# EAGLE library part TXB0104 (library pandaLight)
4-bit bidirectional voltage-level translator
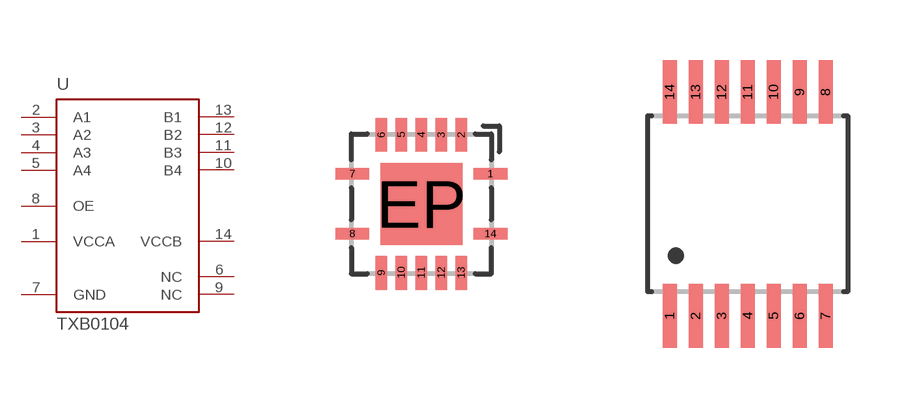
[diagram p18: symbol with the pads of S-PVQFN-N14; footprints S-PVQFN-N14, R-PDSO-G14]

Designator prefix U

## TXB0104RGYR  [S-PVQFN-N14]
1  VCCA  pwr
2  A1
3  A2
4  A3
5  A4
6  NC  nc
7  GND  pwr
8  OE  in
9  NC  nc
10  B4
11  B3
12  B2
13  B1
14  VCCB  pwr

## TXB0104PWR  [R-PDSO-G14]
Pads as for S-PVQFN-N14

## Footprint S-PVQFN-N14 (pad centres in mm)
smd 0.85 x 0.28: 1 1.725,0.75; 7 -1.725,0.75; 8 -1.725,-0.75; 14 1.725,-0.75
smd 0.28 x 0.85: 2 1,1.725; 3 0.5,1.725; 4 0,1.725; 5 -0.5,1.725; 6 -1,1.725; 9 -1,-1.725; 10 -0.5,-1.725; 11 0,-1.725; 12 0.5,-1.725; 13 1,-1.725
smd 2.05 x 2.05: EP 0,0

## Footprint R-PDSO-G14 (pad centres in mm)
smd 0.35 x 1.6: 1 -1.95,-2.8; 2 -1.3,-2.8; 3 -0.65,-2.8; 4 0,-2.8; 5 0.65,-2.8; 6 1.3,-2.8; 7 1.95,-2.8; 8 1.95,2.8; 9 1.3,2.8; 10 0.65,2.8; 11 0,2.8; 12 -0.65,2.8; 13 -1.3,2.8; 14 -1.95,2.8